# Altium footprint library PG151101S11.PcbLib: 1 footprints
Each footprint in its own frame and in the unit in brackets; x right, y up, seen from the top. Pads: shape width x height; smd on the part's side, far side on the other; paste and mask are expansions set on the pad; w line width, h text height; cw(c..) or ccw(c..) is an arc to the next point about the centre after c.
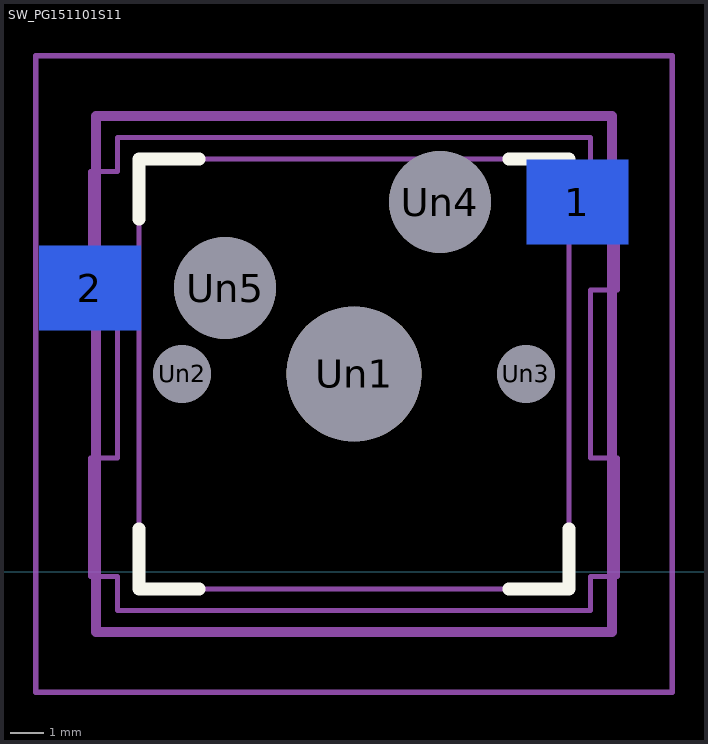
[diagram p0: the footprint, top view; thin cyan lines are the x and y axes]

## SW_PG151101S11 [mil]
pads (7):
  rect 118.11x98.43 smd far side mask+2.01: 1(984.84,430) 2(417.91,330)
  round 157 hole 157 paste-157 mask+2.01: Un1(725,230)
  round 67 hole 67 paste-67 mask+2.01: Un2(525,230) Un3(925,230)
  round 118.11 hole 118.11 paste-118.11 mask+2.01: Un4(825,430) Un5(575,330)
Top Overlay:
  lines w15: 475,50 475,-20 545,-20 ; 475,410 475,480 545,480 ; 905,-20 975,-20 975,50 ; 905,480 975,480 975,410
Bottom Overlay:
  lines w5.91: 634.45,283.15 cw(c616.73,279.21) 620.67,261.5 508.46,261.5 508.46,411.1 cw(c595.08,411.1) 595.08,497.72 894.29,497.72 894.29,381.57 cw(c871.65,382.56) 870.67,359.92 713.19,359.92 ccw(c709.25,285.12) 634.45,289.06
Mechanical 2:
  lines w6: 355,-140 355,600 1095,600 1095,-140 355,-140
  lines w11.81: 425,-70 425,530 1025,530 1025,-70 425,-70
Mechanical 7:
  lines w6: 475,-20 475,480 975,480 975,-20 475,-20
Mechanical 9:
  lines w5.91: 450,-5.63 418.5,-5.63 418.5,132.17 450,132.17 450,327.83 418.5,327.83 418.5,465.63 450,465.63 ; 1000,-5.63 1031.5,-5.63 1031.5,132.17 1000,132.17 1000,327.83 1031.5,327.83 1031.5,465.63 1000,465.63
  lines w6: 450,-5.63 450,-45 1000,-45 1000,-5.63 ; 450,465.63 450,505 1000,505 1000,465.63